# EAGLE library part MDR_R_26G (library Con-MDR-Centronics)
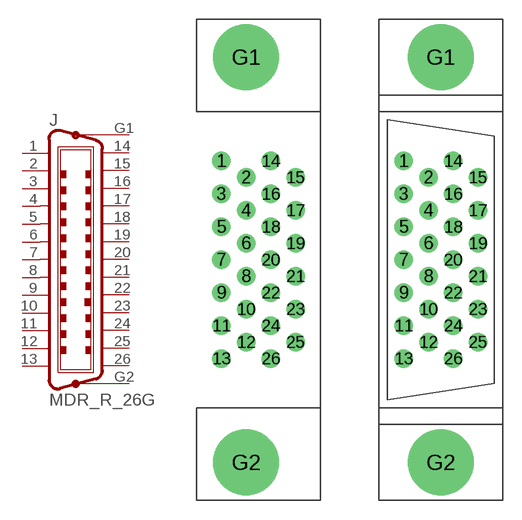
[diagram p2: symbol with the pads of MDR_R_26GH; footprints MDR_R_26GH, MDR_R_26GV]

Designator prefix J

## MDR_R_26GH  [MDR_R_26GH]
1  1  pas
2  2  pas
3  3  pas
4  4  pas
5  5  pas
6  6  pas
7  7  pas
8  8  pas
9  9  pas
10  10  pas
11  11  pas
12  12  pas
13  13  pas
14  14  pas
15  15  pas
16  16  pas
17  17  pas
18  18  pas
19  19  pas
20  20  pas
21  21  pas
22  22  pas
23  23  pas
24  24  pas
25  25  pas
26  26  pas
G1  G  pas
G2  G1  pas

## MDR_R_26GV  [MDR_R_26GV]
Pads as for MDR_R_26GH

## Footprint MDR_R_26GH (pad centres in mm)
drill 0.8 pad 1.422 round: 1 -3.81,7.62; 2 -1.905,6.35; 3 -3.81,5.08; 4 -1.905,3.81; 5 -3.81,2.54; 6 -1.905,1.27; 7 -3.81,0; 8 -1.905,-1.27; 9 -3.81,-2.54; 10 -1.905,-3.81; 11 -3.81,-5.08; 12 -1.905,-6.35; 13 -3.81,-7.62; 14 0,7.62; 15 1.905,6.35; 16 0,5.08; 17 1.905,3.81; 18 0,2.54; 19 1.905,1.27; 20 0,0; 21 1.905,-1.27; 22 0,-2.54; 23 1.905,-3.81; 24 0,-5.08; 25 1.905,-6.35; 26 0,-7.62
drill 2.794 pad 5.08 round: G1 -1.905,15.634; G2 -1.905,-15.634

## Footprint MDR_R_26GV (pad centres in mm)
drill 0.8 pad 1.422 round: 1 -3.81,7.62; 2 -1.905,6.35; 3 -3.81,5.08; 4 -1.905,3.81; 5 -3.81,2.54; 6 -1.905,1.27; 7 -3.81,0; 8 -1.905,-1.27; 9 -3.81,-2.54; 10 -1.905,-3.81; 11 -3.81,-5.08; 12 -1.905,-6.35; 13 -3.81,-7.62; 14 0,7.62; 15 1.905,6.35; 16 0,5.08; 17 1.905,3.81; 18 0,2.54; 19 1.905,1.27; 20 0,0; 21 1.905,-1.27; 22 0,-2.54; 23 1.905,-3.81; 24 0,-5.08; 25 1.905,-6.35; 26 0,-7.62
drill 2.794 pad 5.08 round: G1 -0.953,15.634; G2 -0.953,-15.634